# EAGLE library part MPL3115A2 (library Kas-Sensors)
MPL3115A2 Pressure sensor MPL3115A2: 50 to 110kPa, 2.5v, Absolute Xtrinsic Smart Pressure Sensor
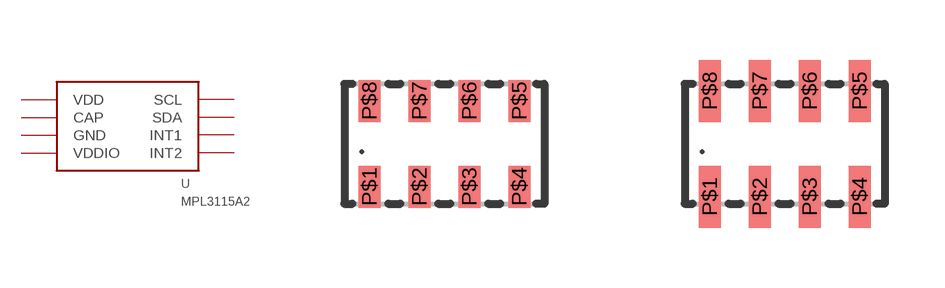
[diagram p3: symbol with the pads of LGA-8(5X3); footprints LGA-8(5X3), LGA-8(5X3)_HS]

Designator prefix U

## MPL3115A2  [LGA-8(5X3)]
P$1  VDD
P$2  CAP
P$3  GND
P$4  VDDIO
P$5  INT2
P$6  INT1
P$7  SDA
P$8  SCL

## MPL3115A2_HS  [LGA-8(5X3)_HS]
Pads as for LGA-8(5X3)

## Footprint LGA-8(5X3) (pad centres in mm)
smd 0.55 x 1.05: P$1 -1.875,-1.075; P$2 -0.625,-1.075; P$3 0.625,-1.075; P$4 1.875,-1.075; P$5 1.875,1.075; P$6 0.625,1.075; P$7 -0.625,1.075; P$8 -1.875,1.075

## Footprint LGA-8(5X3)_HS (pad centres in mm)
smd 0.55 x 1.55: P$1 -1.875,-1.325; P$2 -0.625,-1.325; P$3 0.625,-1.325; P$4 1.875,-1.325; P$5 1.875,1.325; P$6 0.625,1.325; P$7 -0.625,1.325; P$8 -1.875,1.325